# Altium footprint library GeneratedFootprints.PcbLib: 16 footprints
Each footprint in its own frame and in the unit in brackets; x right, y up, seen from the top. Pads: shape width x height; smd on the part's side, far side on the other; paste and mask are expansions set on the pad; w line width, h text height; cw(c..) or ccw(c..) is an arc to the next point about the centre after c.
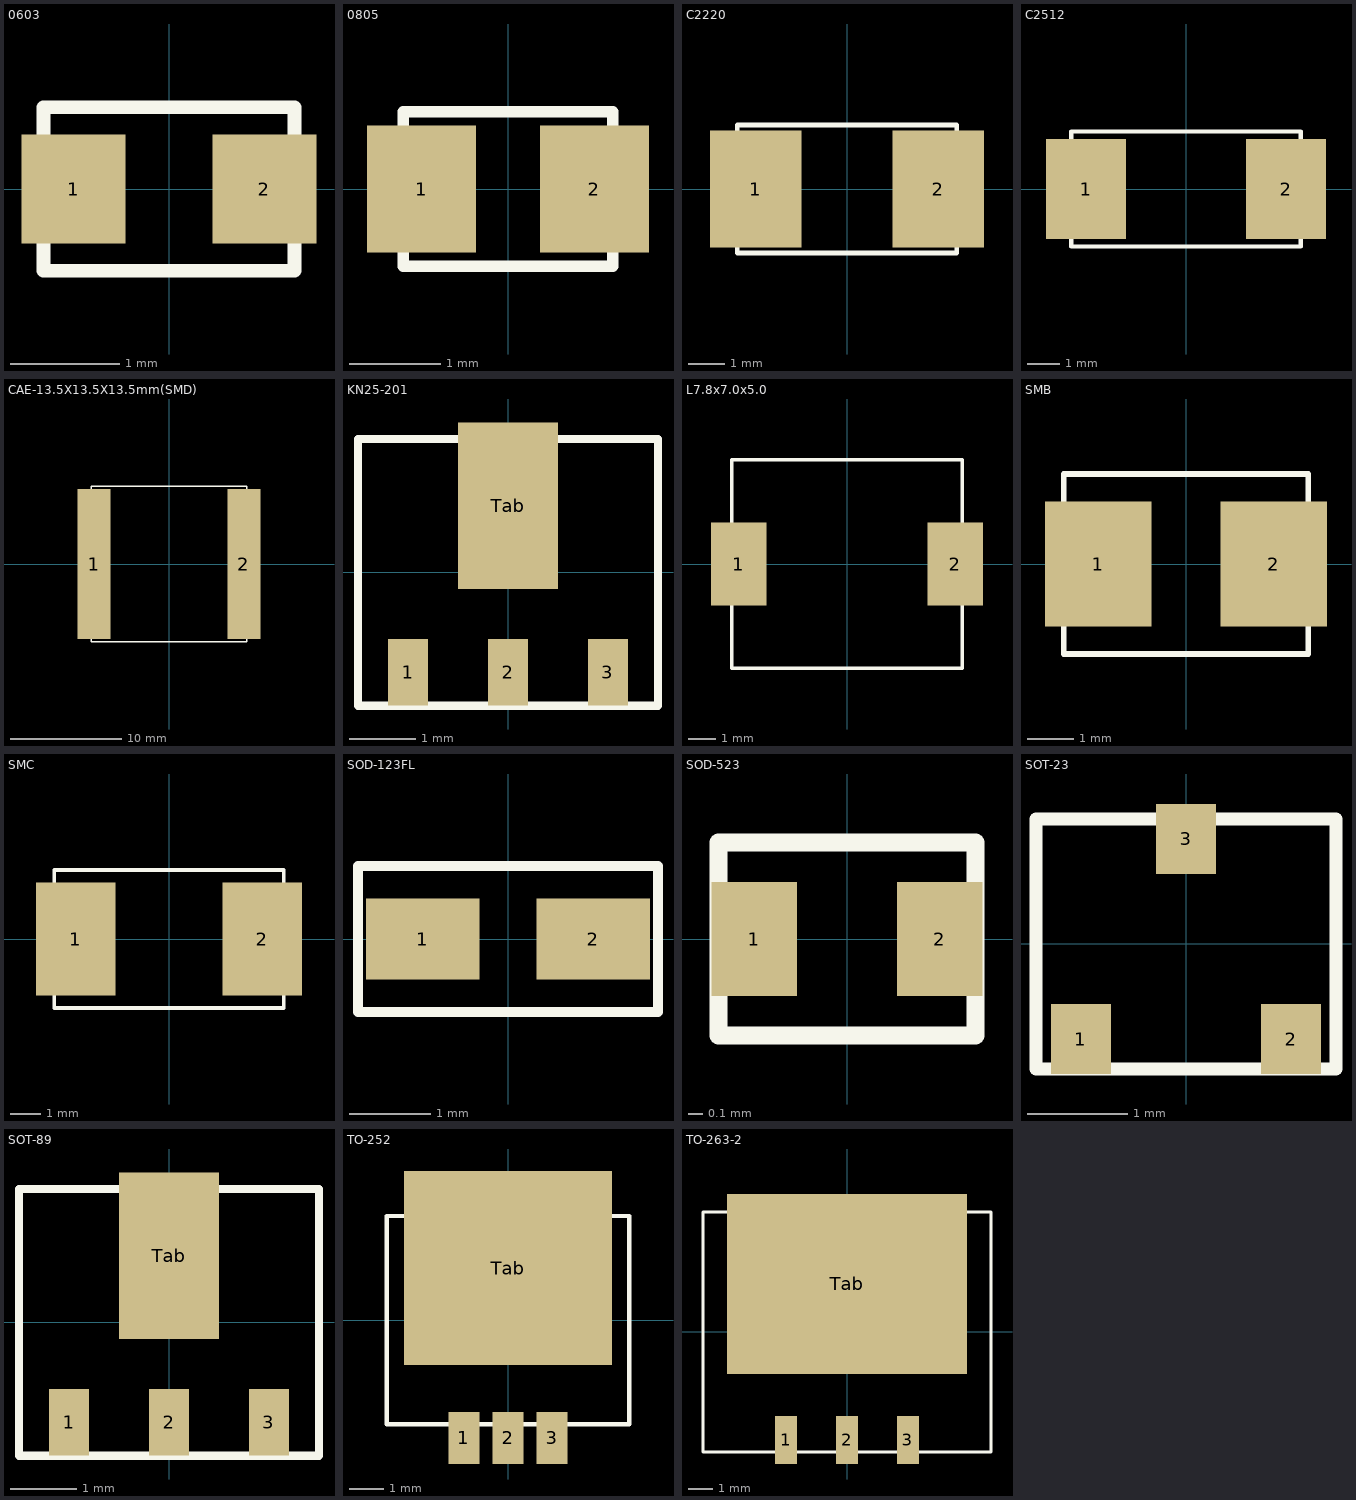
[diagram p0: the footprints below, top view; thin cyan lines are the x and y axes]

## 0603 [mm]
pads (2):
  rect 0.95x1 smd: 1(-0.875,0) 2(0.875,0)
Top Overlay:
  lines w0.127: -1.15,-0.75 1.15,-0.75 1.15,0.75 -1.15,0.75 -1.15,-0.75

## 0805 [mm]
pads (2):
  rect 1.2x1.4 smd: 1(-0.95,0) 2(0.95,0)
Top Overlay:
  lines w0.127: -1.15,-0.85 1.15,-0.85 1.15,0.85 -1.15,0.85 -1.15,-0.85

## C2220 [mm]
pads (2):
  rect 2.5x3.2 smd: 1(-2.5,0) 2(2.5,0)
Top Overlay:
  lines w0.127: -3,-1.75 3,-1.75 3,1.75 -3,1.75 -3,-1.75

## C2512 [mm]
pads (2):
  rect 2.45x3.05 smd: 1(-3.05,0) 2(3.05,0)
Top Overlay:
  lines w0.127: -3.5,-1.75 3.5,-1.75 3.5,1.75 -3.5,1.75 -3.5,-1.75

## CAE-13.5X13.5X13.5mm(SMD) [mm]
pads (2):
  rect 3x13.5 smd: 1(-6.75,0) 2(6.75,0)
Top Overlay:
  lines w0.127: -7,-7 7,-7 7,7 -7,7 -7,-7

## KN25-201 [mm]
pads (4):
  rect 0.6x1 smd: 1(-1.5,-1.5) 2(0,-1.5) 3(1.5,-1.5)
  rect 1.5x2.5 smd: Tab(0,1)
Top Overlay:
  lines w0.127: -2.25,-2 2.25,-2 2.25,2 -2.25,2 -2.25,-2

## L7.8x7.0x5.0 [mm]
pads (2):
  rect 2x3 smd: 1(-3.9,0) 2(3.9,0)
Top Overlay:
  lines w0.127: -4.15,-3.75 4.15,-3.75 4.15,3.75 -4.15,3.75 -4.15,-3.75

## PCBComponent_1 [mm]

## SMB [mm]
pads (2):
  rect 2.3x2.7 smd: 1(-1.9,0) 2(1.9,0)
Top Overlay:
  lines w0.127: -2.65,-1.95 2.65,-1.95 2.65,1.95 -2.65,1.95 -2.65,-1.95

## SMC [mm]
pads (2):
  rect 2.6x3.7 smd: 1(-3.05,0) 2(3.05,0)
Top Overlay:
  lines w0.127: -3.75,-2.25 3.75,-2.25 3.75,2.25 -3.75,2.25 -3.75,-2.25

## SOD-123FL [mm]
pads (2):
  rect 1.4x1 smd: 1(-1.05,0) 2(1.05,0)
Top Overlay:
  lines w0.127: -1.85,-0.9 1.85,-0.9 1.85,0.9 -1.85,0.9 -1.85,-0.9

## SOD-523 [mm]
pads (2):
  rect 0.6x0.8 smd: 1(-0.65,0) 2(0.65,0)
Top Overlay:
  lines w0.127: -0.9,-0.675 0.9,-0.675 0.9,0.675 -0.9,0.675 -0.9,-0.675

## SOT-23 [mm]
pads (3):
  rect 0.6x0.7 smd: 1(-1.05,-0.95) 2(1.05,-0.95) 3(0,1.05)
Top Overlay:
  lines w0.127: -1.5,-1.25 1.5,-1.25 1.5,1.25 -1.5,1.25 -1.5,-1.25

## SOT-89 [mm]
pads (4):
  rect 0.6x1 smd: 1(-1.5,-1.5) 2(0,-1.5) 3(1.5,-1.5)
  rect 1.5x2.5 smd: Tab(0,1)
Top Overlay:
  lines w0.127: -2.25,-2 2.25,-2 2.25,2 -2.25,2 -2.25,-2

## TO-252 [mm]
pads (4):
  rect 0.9x1.5 smd: 1(-1.27,-3.4) 2(0,-3.4) 3(1.27,-3.4)
  rect 6x5.6 smd: Tab(0,1.5)
Top Overlay:
  lines w0.127: -3.5,-3 3.5,-3 3.5,3 -3.5,3 -3.5,-3

## TO-263-2 [mm]
pads (4):
  rect 0.9x2 smd: 1(-2.54,-4.5) 2(0,-4.5) 3(2.54,-4.5)
  rect 10x7.5 smd: Tab(0,2)
Top Overlay:
  lines w0.127: -6,-5 6,-5 6,5 -6,5 -6,-5